# EAGLE library part PTQB425080 (library ic)
PTQB425080: DC/DC converter (Texas Instruments) Input 36V-75V in, output 1/6 of input, 25A out 93% efficiency, isloated output
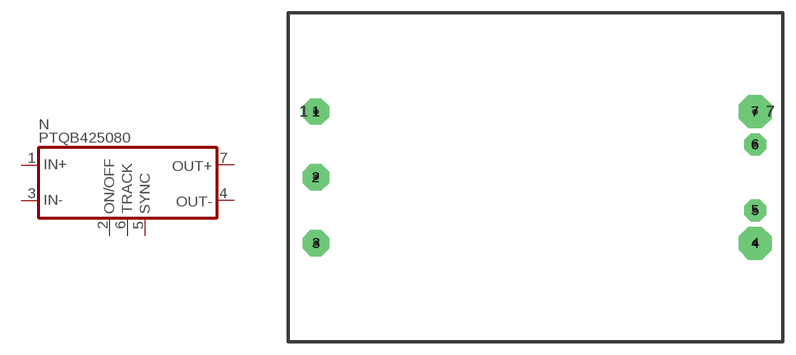
[diagram p119: symbol with the pads of PTQB425080; footprint PTQB425080]

Designator prefix N

## PTQB425080  [PTQB425080]
1  IN+  in
2  ON/OFF  in
3  IN-  in
4  OUT-  out
5  SYNC
6  TRACK
7  OUT+  out

## Footprint PTQB425080 (pad centres in mm)
drill 1.194 pad 3.048 octagon: 1 -25.4,7.62; 2 -25.4,0; 3 -25.4,-7.62
drill 1.702 pad 3.81 octagon: 4 25.4,-7.62; 7 25.4,7.62
drill 1.194 pad 2.54 octagon: 5 25.4,-3.81; 6 25.4,3.81